# EAGLE library part STIFTLEISTE-GEWINKELT-20POL (library Stiftleiste -  20Pol gewinkelt)
Name des Bauteiles:Stiftleiste 2x20pol. gewinkelt Daten:Gold / RM 2,54 , Fischer: SL 4 025 40 G Artikelnummer:#131208 Datenblatt:
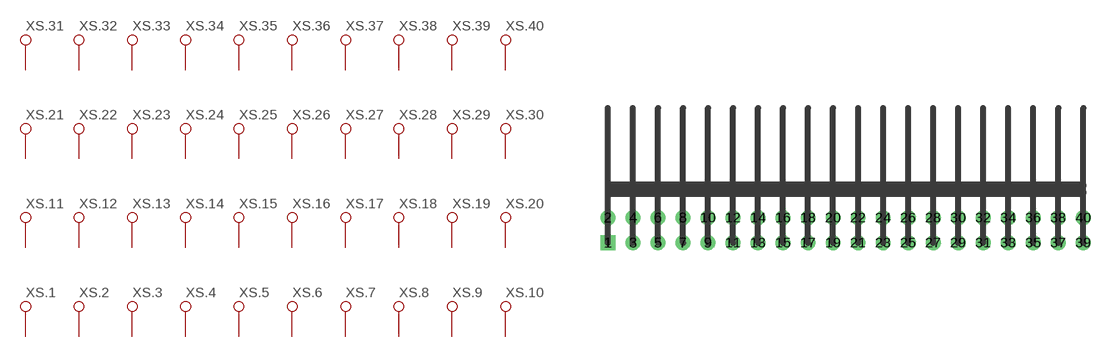
[diagram p0: symbol with the pads of STIFTLEISTE-2X20POL; footprint STIFTLEISTE-2X20POL]

Designator prefix XS; gates .1=1 .2=1 .3=1 .4=1 .5=1 .6=1 .7=1 .8=1 .9=1 .10=1 .11=1 .12=1 .13=1 .14=1 .15=1 .16=1 .17=1 .18=1 .19=1 .20=1 .21=1 .22=1 .23=1 .24=1 .25=1 .26=1 .27=1 .28=1 .29=1 .30=1 .31=1 .32=1 .33=1 .34=1 .35=1 .36=1 .37=1 .38=1 .39=1 .40=1

## STIFTLEISTE-GEWINKELT-20POLTHT  [STIFTLEISTE-2X20POL]
1  .1:P$1
2  .2:P$1
3  .3:P$1
4  .4:P$1
5  .5:P$1
6  .6:P$1
7  .7:P$1
8  .8:P$1
9  .9:P$1
10  .10:P$1
11  .11:P$1
12  .12:P$1
13  .13:P$1
14  .14:P$1
15  .15:P$1
16  .16:P$1
17  .17:P$1
18  .18:P$1
19  .19:P$1
20  .20:P$1
21  .21:P$1
22  .22:P$1
23  .23:P$1
24  .24:P$1
25  .25:P$1
26  .26:P$1
27  .27:P$1
28  .28:P$1
29  .29:P$1
30  .30:P$1
31  .31:P$1
32  .32:P$1
33  .33:P$1
34  .34:P$1
35  .35:P$1
36  .36:P$1
37  .37:P$1
38  .38:P$1
39  .39:P$1
40  .40:P$1

## Footprint STIFTLEISTE-2X20POL (pad centres in mm)
drill 1 square: 1 -22.86,0
drill 1: 2 -22.86,2.54; 3 -20.32,0; 4 -20.32,2.54; 5 -17.78,0; 6 -17.78,2.54; 7 -15.24,0; 8 -15.24,2.54; 9 -12.7,0; 10 -12.7,2.54; 11 -10.16,0; 12 -10.16,2.54; 13 -7.62,0; 14 -7.62,2.54; 15 -5.08,0; 16 -5.08,2.54; 17 -2.54,0; 18 -2.54,2.54; 19 0,0; 20 0,2.54; 21 2.54,0; 22 2.54,2.54; 23 5.08,0; 24 5.08,2.54; 25 7.62,0; 26 7.62,2.54; 27 10.16,0; 28 10.16,2.54; 29 12.7,0; 30 12.7,2.54; 31 15.24,0; 32 15.24,2.54; 33 17.78,0; 34 17.78,2.54; 35 20.32,0; 36 20.32,2.54; 37 22.86,0; 38 22.86,2.54; 39 25.4,0; 40 25.4,2.54